# Altium schematic symbol library Transistors.SchLib: 4 symbols
Pins are listed as number, name and electrical type; pins without a type are passive.

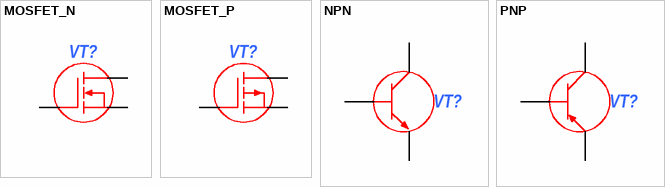
[diagram p0: symbols MOSFET_N to PNP]

## MOSFET_N
designator VT?
pins: 1 G, 2 D, 3 S

## MOSFET_P
designator VT?
pins: 1 G, 2 D, 3 S

## NPN
designator VT?  (value not drawn)
Транз. N-P-N
pins: 1, 2, 3

## PNP
designator VT?  (value not drawn)
Транз. P-N-P
pins: 1, 2, 3